# EAGLE library part ST2329A (library rgb_cube)
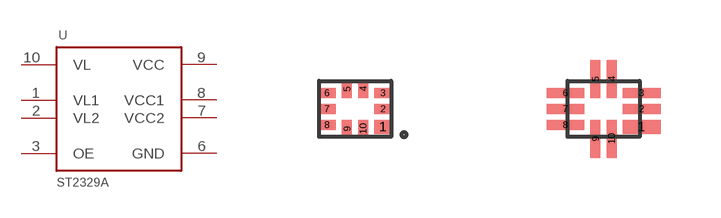
[diagram p16: symbol with the pads of QFN10; footprints QFN10, QFN10L]

Designator prefix -

## ST2329A  [QFN10]
1  VL1
2  VL2
3  OE  in
4  NC4  nc
5  NC5  nc
6  GND  sup
7  VCC2
8  VCC1
9  VCC  sup
10  VL  sup

## ST2329A-MANUAL-SOLDERING  [QFN10L]
Pads as for QFN10

## Footprint QFN10 (pad centres in mm)
smd 0.45 x 0.35: 1 0.7,-0.45
smd 0.45 x 0.25: 2 0.7,0; 3 0.7,0.4; 6 -0.7,0.4; 7 -0.7,0; 8 -0.7,-0.4
smd 0.25 x 0.45: 4 0.2,0.5; 5 -0.2,0.5; 9 -0.2,-0.5; 10 0.2,-0.5

## Footprint QFN10L (pad centres in mm)
smd 0.95 x 0.35: 1 0.95,-0.45
smd 0.95 x 0.25: 2 0.95,0; 3 0.95,0.4; 6 -0.95,0.4; 7 -0.95,0; 8 -0.95,-0.4
smd 0.25 x 0.95: 4 0.2,0.75; 5 -0.2,0.75; 9 -0.2,-0.75; 10 0.2,-0.75